# EAGLE library part SX1509 (library Eagle_CAD_parts)
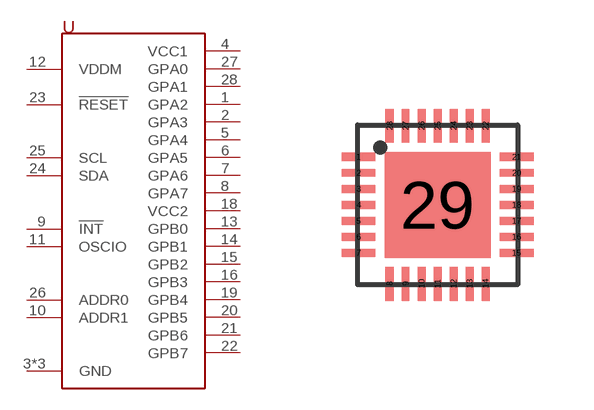
[diagram p88: symbol with the pads of 28-QFN-4X4; footprint 28-QFN-4X4]

Designator prefix U

## SX1509BIULTRT (DIGIKEY_PART_NUMBER: SX1509BIULCT-ND; MANUFACTURER_PART_NUMBER: SX1509BIULTRT)  [28-QFN-4X4]
1  GPA2
2  GPA3
3  GND
4  VCC1
5  GPA4
6  GPA5
7  GPA6
8  GPA7
9  !INT
10  ADDR1
11  OSCIO
12  VDDM
13  GPB0
14  GPB1
15  GPB2
16  GPB3
17  GND
18  VCC2
19  GPB4
20  GPB5
21  GPB6
22  GPB7
23  !RESET
24  SDA
25  SCL
26  ADDR0
27  GPA0
28  GPA1
29  GND

## Footprint 28-QFN-4X4 (pad centres in mm)
smd 0.85 x 0.2: 1 -1.975,1.2; 2 -1.975,0.8; 3 -1.975,0.4; 4 -1.975,0; 5 -1.975,-0.4; 6 -1.975,-0.8; 7 -1.975,-1.2; 15 1.975,-1.2; 16 1.975,-0.8; 17 1.975,-0.4; 18 1.975,0; 19 1.975,0.4; 20 1.975,0.8; 21 1.975,1.2
smd 0.2 x 0.85: 8 -1.2,-1.975; 9 -0.8,-1.975; 10 -0.4,-1.975; 11 0,-1.975; 12 0.4,-1.975; 13 0.8,-1.975; 14 1.2,-1.975; 22 1.2,1.975; 23 0.8,1.975; 24 0.4,1.975; 25 0,1.975; 26 -0.4,1.975; 27 -0.8,1.975; 28 -1.2,1.975
smd 2.65 x 2.65: 29 0,0